# Altium schematic symbol library IND_INDUCTOR-2.Schlib: 1 symbol
Pins are listed as number, name and electrical type; pins without a type are passive.

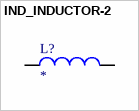
[diagram p0: symbol IND_INDUCTOR-2]

## IND_INDUCTOR-2
designator L?
pins: 1, 2